# Altium schematic symbol library IPB015N04N G.SchLib: 1 symbol
Pins are listed as number, name and electrical type; pins without a type are passive.

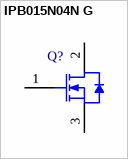
[diagram p0: symbol IPB015N04N G]

## IPB015N04N G
designator Q?
N-Channel OptiMOS 3 Power-Transistor, 40 V VDS, 120 A ID, -55 to 175 degC, PG-TO-263-3-2, Reel, Green; Manufacturer: Infineon; PartNumber: IPB015N04N G; Green: TRUE; ID (max): 120 A; IDpuls (max): 400 A; Polarity: N; Ptot (max): 250 W; QG: 188 nC; RDS (on) (max): 1.5 mOhm; Rth: 0.6 K/W; RthJA (max): 62 K/W; VDS (max): 40 V; VGS(th) (max): 4 V; VGS(th) (min): 2 V; DatasheetVersion: Rev. 2.2; PackageVersion: Rev. 01, 08/2007; PackageReference: PG-TO-263-3-2; PackageDescription: 3-Pin Plastic (Green) Transistor Single Outline Package, 10.06 x 8.98 mm Body, 2.54 mm Pitch; Supplier 1: Digi-Key; Supplier Part Number 1: IPB015N04N GTR-ND; Supplier 2: Digi-Key; Supplier Part Number 2: IPB015N04N GCT-ND; Supplier 3: Digi-Key; Supplier Part Number 3: IPB015N04N GDKR-ND; Supplier 4: Farnell; Supplier Part Number 4: 1775518; Supplier 5: Newark; Supplier Part Number 5: 60R2642; Supplier 6: Mouser; Supplier Part Number 6: 726-IPB015N04NG; Halogen-free: TRUE; Packing: Reel; RthJC (max): 0.6 K/W; Mounting Technology: Surface Mount; ComponentLink1Description: Manufacturer URL; ComponentLink1URL: http://www.infineon.com/; ComponentLink2Description: Datasheet; ComponentLink2URL: http://www.infineon.com/dgdl/IPB015N04N_rev2.2.pdf?folderId=db3a3043156fd5730115c7d50620107c&fileId=db3a30431689f4420116c474de8f0845; ComponentLink3Description: Package Specification; ComponentLink3URL: http://www.infineon.com/dgdl/IPB026N06N_Rev2.2.pdf?folderId=db3a304313b8b5a60113cee8763b02d7&fileId=db3a3043372d5cc8013754c7b2a74f7c
footprint INF-PG-TO-263-3-2_A_N (DPAK, 3-Leads, Body 10.06x8.98mm, Pitch 2.54mm, IPC Medium Density)
footprint INF-PG-TO-263-3-2_A_L (DPAK, 3-Leads, Body 10.06x8.98mm, Pitch 2.54mm, IPC High Density)
footprint INF-PG-TO-263-3-2_A_M (DPAK, 3-Leads, Body 10.06x8.98mm, Pitch 2.54mm, IPC Low Density)
pins: 1 GATE, 2 DRAIN, 3 SOURCE